# EAGLE library part DTF13-12P (library _PWM_driver)
DEUTSCH Connector, Right angle PCB mount 12 pin DTF
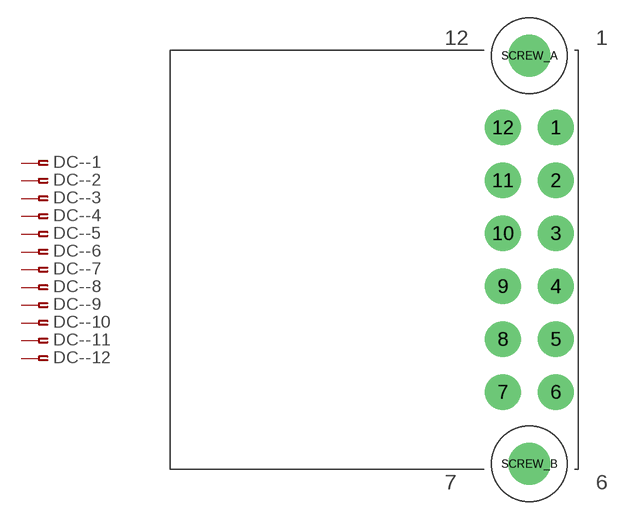
[diagram p7: symbol with the pads of DTF13-12P; footprint DTF13-12P]

Designator prefix DC-; gates -1=CONNECTOR_PIN -2=CONNECTOR_PIN -3=CONNECTOR_PIN -4=CONNECTOR_PIN -5=CONNECTOR_PIN -6=CONNECTOR_PIN -7=CONNECTOR_PIN -8=CONNECTOR_PIN -9=CONNECTOR_PIN -10=CONNECTOR_PIN -11=CONNECTOR_PIN -12=CONNECTOR_PIN

## DTF13-12P  [DTF13-12P]
1  -1:P$1  pas
2  -2:P$1  pas
3  -3:P$1  pas
4  -4:P$1  pas
5  -5:P$1  pas
6  -6:P$1  pas
7  -7:P$1  pas
8  -8:P$1  pas
9  -9:P$1  pas
10  -10:P$1  pas
11  -11:P$1  pas
12  -12:P$1  pas

## Footprint DTF13-12P (pad centres in mm)
drill 2 round: 1 2.223,11.113; 2 2.223,6.668; 3 2.223,2.223; 4 2.223,-2.223; 5 2.223,-6.668; 6 2.223,-11.113; 7 -2.223,-11.113; 8 -2.223,-6.668; 9 -2.223,-2.223; 10 -2.223,2.223; 11 -2.223,6.668; 12 -2.223,11.113
drill 2.527 round: SCREW_A 0,17.145; SCREW_B 0,-17.145